# Altium schematic symbol library Soldering_Station_V2.SCHLIB: 34 symbols
Pins are listed as number, name and electrical type; pins without a type are passive.

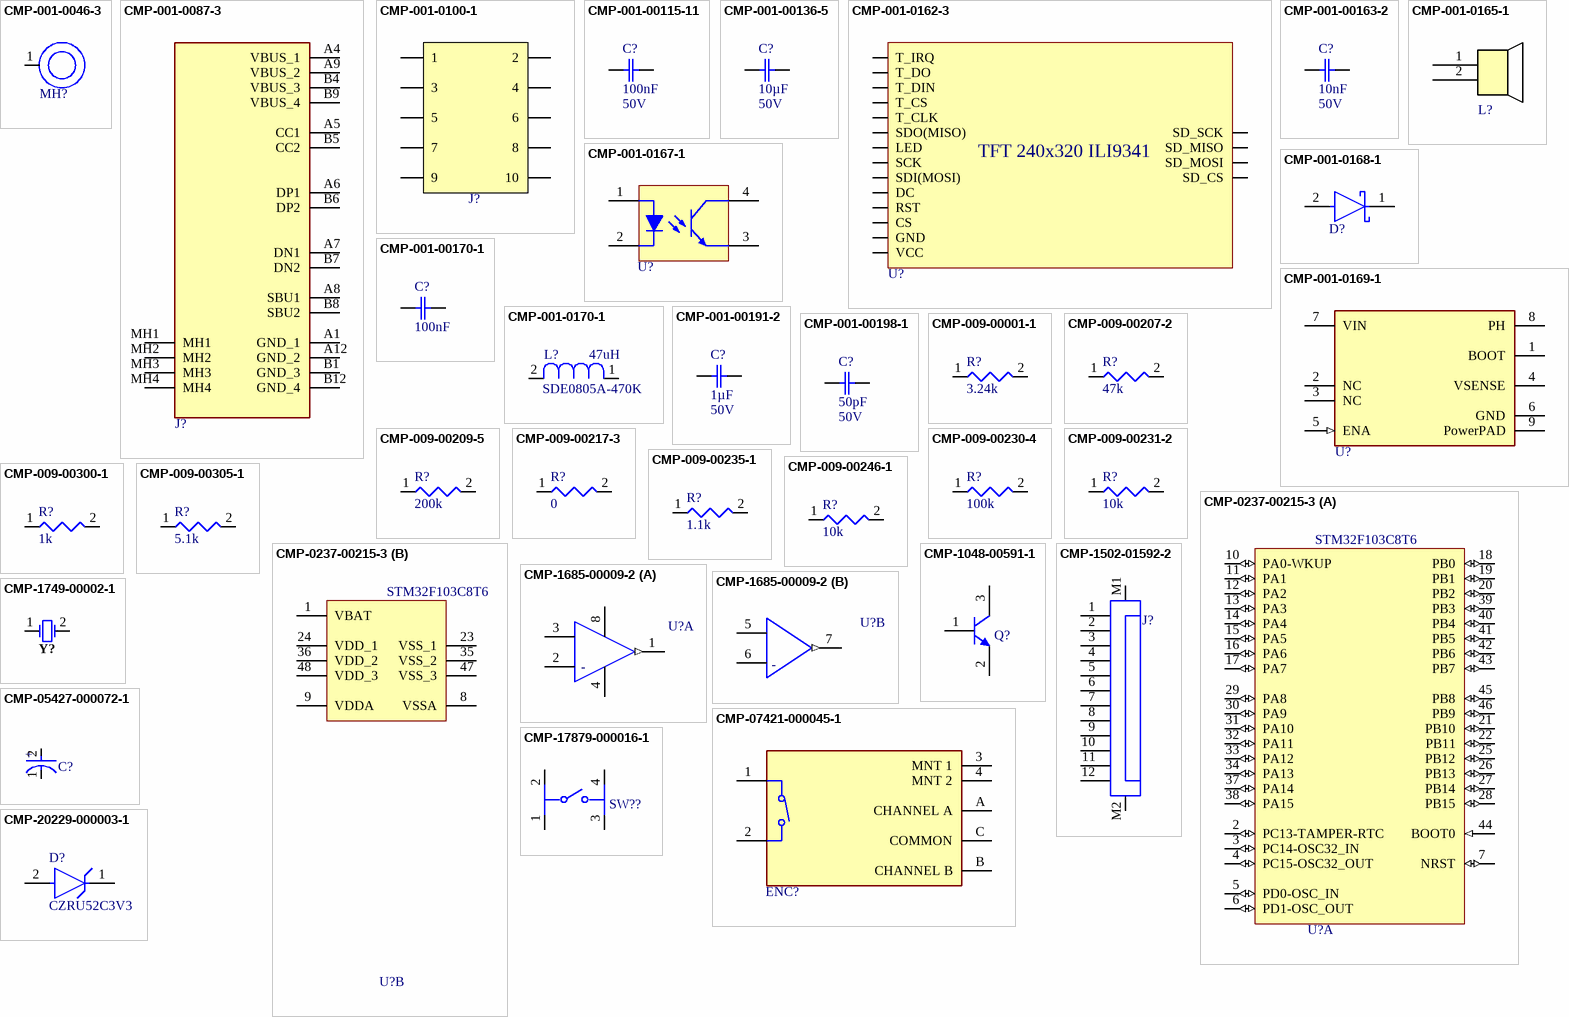
[diagram p0: symbols CMP-001-0046-3 to CMP-20229-000003-1]

## CMP-001-0046-3
designator MH?, comment 3mm_Mounting_Hole  (value not drawn)
3.2mm, sPad Mounting Hole; Size: 3mm
footprint Single_3mm_Mounting_Hole
pins: 1

## CMP-001-0087-3
designator J?, comment 216990-0001  (value not drawn)
Conn USB 2.0 Type C F 16 POS 0.5mm Solder RA SMD 16 Terminal 1 Port T/R; Voltage Rating: 30V; Current Rating: 1.25A; Gender: Receptacle; Number of Contacts: 16; USB Standard: USB 2.0; Max Operating Temperature: 85°C; Min Operating Temperature: -40°C; REACH SVHC: Yes; Pins: 16; Lifecycle Status: Production; Contact Material: Gold, Nickel; RoHS: Compliant
footprint 216990-0001-Footprint-1
pins: A1 GND_1, A4 VBUS_1, A5 CC1, A6 DP1, A7 DN1, A8 SBU1, A9 VBUS_2, A12 GND_2, B1 GND_3, B4 VBUS_3, B5 CC2, B6 DP2, B7 DN2, B8 SBU2, B9 VBUS_4, B12 GND_4, MH1, MH2, MH3, MH4

## CMP-001-0100-1
designator J?, comment 302-S101  (value not drawn)
Conn Shrouded Header (4 Sides) HDR 10 POS 2.54mm Solder ST Thru-Hole; Current Rating: 3A; Connector Type: Male Pin; Number of Contacts: 10; Contact Resistance: 20mΩ; Insulation Resistance: 1GΩ; Terminal Pitch: 2.54mm; RoHS: Compliant; REACH SVHC: Yes; Contact Gender: Male; Row Spacing: 2.54mm; Contact Material: Brass; Number of Rows: 2; Max Operating Temperature: 105°C; Color: Black; Pitch: 2.54mm; Contact Plating: Gold; Number of Positions: 10; Termination: Solder; Mounting Technology: Through Hole; Lifecycle Status: Production; Min Operating Temperature: -40°C; Pins: 10; Height: 9.15mm
footprint FP-302-S101-MFG
pins: 1, 2, 3, 4, 5, 6, 7, 8, 9, 10

## CMP-001-00115-11
designator C?, comment value 100nF  Voltage Rating: 50V  (hidden comment: CAP-MLCC_SMD-0603_MR-GCM_u_0.1uF_50V_10%_X8L)
Ceramic Capacitor, Multilayer, Ceramic, 50V, 10% +Tol, 10% -Tol, X8L, -40/+15% TC, 0.1uF, Surface Mount, 0603; Automotive: AEQ-200; Min Operating Temperature: -55°C; Case/Package: 0603; Mounting Technology: Surface Mount; RoHS Compliant: Yes; Capacitor Type: Ceramic; Pins: 2; Max Operating Temperature: 150°C
footprint Generic Ceramic 0603 CAP
pins: 1, 2

## CMP-001-00136-5
designator C?, comment value 10µF  Voltage Rating: 50V  (hidden comment: CAP-MLCC_SMD-1210_Mur_CGA_u_10uF_50V_10%_X7S)
Ceramic Capacitor, Multilayer, Ceramic, 50V, 10% +Tol, 10% -Tol, X7S, 22% TC, 10uF, Surface Mount, 1210; Dielectric: X8R; Mounting Technology: Surface Mount; Capacitor Type: Ceramic; Automotive: AEQ-Q200; Min Operating Temperature: -55°C; Tolerance: 10%; Pins: 2; Case/Package: 1210; Max Operating Temperature: 125°C; RoHS Compliant: Yes
footprint Generic Ceramic 1210 CAP
pins: 1, 2

## CMP-001-0162-3
designator U?, comment TFT 240x320 SPI  (value not drawn)
footprint TFT ILI9341 2.4inch
footprint TFT ILI9341 2.8inch
footprint TFT ILI9341 2.8inch 2
pins: 1 VCC, 2 GND, 3 CS, 4 RST, 5 DC, 6 SDI(MOSI), 7 SCK, 8 LED, 9 SDO(MISO), 10 T_CLK, 11 T_CS, 12 T_DIN, 13 T_DO, 14 T_IRQ, 15 SD_SCK, 16 SD_MISO, 17 SD_MOSI, 18 SD_CS
text: TFT 240x320 ILI9341

## CMP-001-00163-2
designator C?, comment value 10nF  Voltage Rating: 50V  (hidden comment: CAP-MLCC_SMD-0603_MR-GCM_n_10nF_50V_10%_COG)
Ceramic Capacitor, Multilayer, Ceramic, 50V, 5% +Tol, 5% -Tol, C0G, 30ppm/Cel TC, 0.01uF, Surface Mount, 0603; Dielectric: COG; Max Operating Temperature: 125°C; Min Operating Temperature: -55°C; Mounting Technology: Surface Mount; Automotive: AEQ-200; Case/Package: 0603; RoHS Compliant: Yes; Capacitor Type: Ceramic; Pins: 2
footprint Generic Ceramic 0603 CAP
pins: 1, 2

## CMP-001-0165-1
designator L?, comment TMB12A05  (value not drawn)
88dB Active (Built-in Driver Circuit) Electromagnetic Type 2.4kHz Plugin, D=12mm Buzzers ROHS
footprint TMB12A05-Footprint-1
pins: 1, 2

## CMP-001-0167-1
designator U?, comment H11A817ASD  (value not drawn)
OptoCouplers & OptoIsolators Optocoupler SM-DIP4 Phototransistor; Power Dissipation: 200mW; Number of Circuits: 1; Output Current per Channel: 50mA; Fall Time: 18µs; Forward Voltage: 1.5V; Dark Current: 100nA; Isolation Voltage: 5kV; Collector Emitter Breakdown Voltage: 70V; Reverse Breakdown Voltage: 6V; Current Transfer Ratio: 80%; Collector Emitter Saturation Voltage: 200mV; Min Operating Temperature: -55°C; Case/Package: SMD/SMT; RoHS: Compliant; Forward Current: 50mA; Lifecycle Status: Obsolete; Max Power Dissipation: 200mW; Continuous Collector Current: 50mA; Pins: 4; Lead Free: Lead Free; Number of Channels: 1; Rise Time: 18µs; Max Operating Temperature: 100°C; Collector Emitter Voltage (VCEO): 70V; Output Voltage: 70V; Max Collector Current: 50mA; Packaging: Tape and Reel; Number of Elements: 1
footprint FAIR-H11A817ASD-4_V (SMD, 4-Leads, Body 6.605x4.64mm, Pitch 2.54mm)
pins: 1 ANODE, 2 CATHODE, 3 EMITTER, 4 COLLECTOR

## CMP-001-0168-1
designator D?, comment DIO-SHOTTKY_SMD_OD-214AC_TWS-1A_100V  (value not drawn)
Rectifier Diode, Schottky, 1 Phase, 1 Element, 1A, 100V V(RRM), Silicon, DO-214AC; Manufacturer Lifecycle Status: ACTIVE; Manufacturer Part Number: SS110; Peak Reverse Current: 2mA; Peak Non-Repetitive Surge Current: 40A; Element Configuration: Single; Forward Voltage: 800mV; Rep Pk Reverse Voltage-Max: 150V; Number of Elements: 1; Reference Standard: AEC-Q101; Max Repetitive Reverse Voltage (Vrrm): 100V; Mounting Technology: Surface Mount; REACH SVHC: No; Case/Package: SMA; Reach SVHC Compliant: Yes; Max Operating Temperature: 150°C; Height: 2.3mm; Lifecycle Status: Production; Length: 4.6mm; Max Forward Surge Current (Ifsm): 40A; Min Operating Temperature: -55°C; Width: 2.83mm; RoHS Compliant: Yes; Forward Current: 1A; Max Output current: 1A; Reverse Standoff Voltage: 100V; Number of Terminals: 2; RoHS: Compliant; Pins: 2
footprint DIO-SHOTTKY_SMD_OD-214AC_TWS-1A_100V-Footprint-1
pins: 1 C, 2 A

## CMP-001-0169-1
designator U?, comment TPS5430QDDARQ1  (value not drawn)
Automotive 5.5V to 36V, 500kHz Fixed Frequency 3A Buck Converter 8-SO PowerPAD -40 to 125; Manufacturer Lifecycle Status: ACTIVE; Output Voltage: 1.221V; Output Type: Adjustable; Quiescent Current: 3mA; Number of Outputs: 1; Max Duty Cycle: 89%; Efficiency: 95%; Max Output Voltage: 31V; Min Output Voltage: 1.22V; Max Junction Temperature (Tj): 125°C; Synchronous Rectifier: No; Pins: 8; Length: 4.89mm; REACH SVHC: No; Height: 1.7mm; Mounting Technology: Surface Mount; Radiation Hardening: No; Thickness: 1.48mm; Width: 3.9mm; Output Current: 3A; Lead Free: Lead Free; Min Input Voltage: 5.5V; Switching Frequency: 500kHz; Nominal Supply Current: 3mA; Topology: Buck; Min Supply Voltage: 5.5V; Operating Supply Voltage: 36V; RoHS: Compliant; Max Supply Voltage: 36V; Max Output current: 3A; Weight: 70.590313mg; Min Operating Temperature: -40°C; Max Operating Temperature: 125°C; Lifecycle Status: Production
footprint FP-DDA0008J-IPC_B
pins: 1 BOOT, 2 NC, 3 NC, 4 VSENSE (power), 5 ENA (in), 6 GND (power), 7 VIN (power), 8 PH, 9 PowerPAD (power)

## CMP-001-00170-1
designator C?, comment value 100nF  (hidden comment: CAP-MLCC_SMD-0402_MR-GCM_n_100nF_50V_10%_X7R)
Ceramic Capacitor, Ceramic, 50V, 10% +Tol, 10% -Tol, X7R, 15% TC, 0.1uF, Surface Mount, 0402; Mounting Technology: Surface Mount; RoHS Compliant: Yes; Capacitor Type: Ceramic; Min Operating Temperature: -55°C; Case/Package: 0402; Max Operating Temperature: 125°C; Pins: 2
footprint Generic Ceramic 0402 CAP
pins: 1, 2

## CMP-001-0170-1
designator L?, comment Inductance: 47uH  (hidden comment: SDE0805A-470K)
Inductor Power Unshielded Wirewound 47uH 10% 1MHz Ferrite 1.7A 0.18Ohm DCR Automotive AEC-Q200 T/R; DC Resistance (DCR): 180mΩ; Shielding: No; Number of Circuits: 1; Self Resonant Frequency: 12.1MHz; Saturation Current: 1.4A; Value: 47µH; Model: SDE0805A-470K; Max Operating Temperature: 125°C; RMS Current (Irms): 1.7A; Termination: SMD/SMT; REACH SVHC: Yes; Contact Plating: Tin; Height - Seated (Max): 5.5118mm; Composition: Wirewound; RoHS: Compliant; Lifecycle Status: Production; Case/Package: 2828; Core Material: Ferrite; Min Operating Temperature: -40°C; Inductance Tolerance: 10%; Mounting Technology: Surface Mount; Height: 5mm; Ratings: AEC-Q200; Width: 7mm; Max Current Rating: 1.7A; Number of Terminals: 2; Tolerance: 10%; Test Frequency: 1MHz; Length: 7.7978mm; Current Rating: 1.7A; Schedule B: 8504500000, 8504500000; China RoHS: Compliant
footprint SDE0805A-470K-Footprint-1
pins: 1, 2

## CMP-001-00191-2
designator C?, comment value 1µF  Voltage Rating: 50V  (hidden comment: CAP-MLCC_SMD-0603_MR-GRT_u_1uF_50V_10%_X5R)
Multilayer Ceramic Capacitors MLCC - SMD/SMT 0603 50Vdc 1.0uF X5R 10%; Case/Package: 0603; Tolerance: 10%; Min Operating Temperature: -55°C; Capacitor Type: Ceramic; Pins: 2; RoHS Compliant: Yes; Mounting Technology: Surface Mount; Automotive: AEQ-200; Max Operating Temperature: 85°C; Dielectric: X5R
footprint Generic Ceramic 0603 CAP
pins: 1, 2

## CMP-001-00198-1
designator C?, comment value 50pF  Voltage Rating: 50V  (hidden comment: CAP-MLCC_SMD-0603_YGE-CC_p_50pF_50V_5%_C0G)
Surface Mount Ceramic Multilayer Capacitor 50pF 5% C0G 50V 0603 Paper T/R; Dielectric: COG; Case/Package: 0603; Min Operating Temperature: -55°C; RoHS Compliant: Yes; Automotive: NONE; Capacitor Type: Ceramic; Mounting Technology: Surface Mount; Max Operating Temperature: 125°C; Pins: 2
footprint Generic Ceramic 0603 CAP
pins: 1, 2

## CMP-009-00001-1
designator R?, comment value 3.24k  (hidden comment: RES-TK_SMD-0603_VIS-CRCW_K_3.24K_1/10W_1%)
Res Thick Film 0805 3.24K Ohm 1% 1/8W ±100ppm/°C Molded SMD SMD Paper T/R; Manufacturer Package Identifier: CRCW0805-e3; Max Power Dissipation: 125mW; Voltage Rating (DC): 150V; RoHS Compliant: Yes; Case Code (Imperial): 0805; Min Operating Temperature: -55°C; REACH SVHC: Yes; Pins: 2; Packaging: Cut Tape; China RoHS: Non-Compliant; Temperature Coefficient: 100ppm/°C; Weight: 5.499807mg; Radiation Hardening: No; Composition: Thick Film; Number of Terminals: 2; Military Standard: Not; Lead Free: Lead Free; Power Rating: 125mW; Mounting Technology: Surface Mount; Length: 2mm; Width: 1.25mm; Case/Package: 0805; Contact Plating: Tin; Termination: Solder; Height: 450µm; Schedule B: 8533210045, 8533210045; Working Voltage: 150V; Features: Automotive AEC-Q200; Number of Terminations: 2; Voltage Rating: 150V; Power Dissipation: 125mW; Lifecycle Status: Production; Power: 125mW; RoHS: Compliant; Depth: 1.25mm; Tolerance: 1%; Max Operating Temperature: 155°C
footprint Generic_0603_RES
pins: 1, 2

## CMP-009-00207-2
designator R?, comment value 47k  (hidden comment: RES-TK_SMD-0603_VIS-CRCW_K_47K_1/10W_1%)
Fixed Resistor, Metal Glaze/thick Film, 0.1W, 47000ohm, 75V, 1% +/-Tol, 100ppm/Cel, Surface Mount, 0603; Power: 100mW; Case/Package: 0603; Max Operating Temperature: 155°C; Voltage Rating: 75V; RoHS Compliant: Yes; Min Operating Temperature: -55°C; Tolerance: 1%; Mounting Technology: Surface Mount; Pins: 2
footprint Generic_0603_RES
pins: 1, 2

## CMP-009-00209-5
designator R?, comment value 200k  (hidden comment: RES-TK_SMD-0603_VIS-CRCW_K_200K_1/10W_1%)
Fixed Resistor, Metal Glaze/thick Film, 0.1W, 200000ohm, 75V, 1% +/-Tol, 100ppm/Cel, Surface Mount, 0603; Power: 100mW; RoHS Compliant: Yes; Voltage Rating: 75V; Tolerance: 1%; Case/Package: 0603; Min Operating Temperature: -55°C; Max Operating Temperature: 155°C; Mounting Technology: Surface Mount; Pins: 2
footprint Generic_0603_RES
pins: 1, 2

## CMP-009-00217-3
designator R?, comment value 0  (hidden comment: RES-TK_SMD-0603_VIS-CRCW_R_0R_1/10W_1%)
Resistor SMD 0 Ohm 0603 PU=5000 ST, CRCW06030000Z0EA, Vishay; Tolerance: 1%; Voltage Rating: 75V; Power: 100mW; Min Operating Temperature: -55°C; Mounting Technology: Surface Mount; Pins: 2; Max Operating Temperature: 155°C; Case/Package: 0603; RoHS Compliant: Yes
footprint Generic_0603_RES
pins: 1, 2

## CMP-009-00230-4
designator R?, comment value 100k  (hidden comment: RES-TK_SMD-0603_VIS-CRCW_K_100K_1/10W_1%)
Fixed Resistor, Metal Glaze/thick Film, 0.1W, 100000ohm, 75V, 1% +/-Tol, 100ppm/Cel, Surface Mount, 0603; Power: 100mW; Pins: 2; Max Operating Temperature: 155°C; Mounting Technology: Surface Mount; Case/Package: 0603; RoHS Compliant: Yes; Voltage Rating: 75V; Tolerance: 1%; Min Operating Temperature: -55°C
footprint Generic_0603_RES
pins: 1, 2

## CMP-009-00231-2
designator R?, comment value 10k  (hidden comment: RES-TK_SMD-0603_VIS-CRCW_K_10K_1/10W_1%)
Fixed Resistor, Metal Glaze/thick Film, 0.1W, 10000ohm, 75V, 1% +/-Tol, 100ppm/Cel, Surface Mount, 0603; Power: 100mW; Min Operating Temperature: -55°C; Case/Package: 0603; Max Operating Temperature: 155°C; RoHS Compliant: Yes; Voltage Rating: 75V; Tolerance: 1%; Pins: 2; Mounting Technology: Surface Mount
footprint Generic_0603_RES
pins: 1, 2

## CMP-009-00235-1
designator R?, comment value 1.1k  (hidden comment: RES-TK_SMD-0603_VIS-CRCW_K_1.1K_1/10W_1%)
Fixed Resistor, Metal Glaze/thick Film, 0.1W, 1100ohm, 75V, 1% +/-Tol, 100ppm/Cel, Surface Mount, 0603; Power: 100mW; Mounting Technology: Surface Mount; Max Operating Temperature: 155°C; RoHS Compliant: Yes; Min Operating Temperature: -55°C; Voltage Rating: 75V; Case/Package: 0603; Tolerance: 1%; Pins: 2
footprint Generic_0603_RES
pins: 1, 2

## CMP-009-00246-1
designator R?, comment value 10k  (hidden comment: RES-TK_SMD-0603_VIS-CRCW_K_10K_1/10W_1%)
Fixed Resistor, Metal Glaze/thick Film, 0.1W, 10000ohm, 75V, 1% +/-Tol, 100ppm/Cel, Surface Mount, 0603; Power: 100mW; Mounting Technology: Surface Mount; Pins: 2; Min Operating Temperature: -55°C; Tolerance: 1%; RoHS Compliant: Yes; Max Operating Temperature: 155°C; Case/Package: 0603; Voltage Rating: 75V
footprint Generic_0603_RES
pins: 1, 2

## CMP-009-00300-1
designator R?, comment value 1k  (hidden comment: RES-TK_SMD-0603_VIS-CRCW_K_1K_1/10W_1%)
Fixed Resistor, Metal Glaze/thick Film, 0.1W, 1000ohm, 75V, 1% +/-Tol, 100ppm/Cel, Surface Mount, 0603; Power: 100mW; Mounting Technology: Surface Mount; Max Operating Temperature: 155°C; Pins: 2; Min Operating Temperature: -55°C; Tolerance: 1%; RoHS Compliant: Yes; Case/Package: 0603; Voltage Rating: 75V
footprint Generic_0603_RES
pins: 1, 2

## CMP-009-00305-1
designator R?, comment value 5.1k  (hidden comment: RES-TK_SMD-0603_VIS-CRCW_K_5.1K_1/10W_1%)
Fixed Resistor, Metal Glaze/thick Film, 0.1W, 5100ohm, 75V, 1% +/-Tol, 100ppm/Cel, Surface Mount, 0603; Power: 100mW; Max Operating Temperature: 155°C; Voltage Rating: 75V; Tolerance: 1%; Min Operating Temperature: -55°C; Pins: 2; Mounting Technology: Surface Mount; RoHS Compliant: Yes; Case/Package: 0603
footprint Generic_0603_RES
pins: 1, 2

## CMP-0237-00215-3
designator U?, comment STM32F103C8T6
ARM Cortex-M3 32-bit MCU, 64 KB Flash, 20 KB Internal RAM, 37 I/Os, 48-pin LQFP, -40 to 85 degC, Tray; Supply Voltage(Vcc) min (V): 2; Internal RAM Size (kB): 20; FLASH Size (Prog) (kB): 64; A/D Converter: 2x12-bit (10 Channel); I/Os (High Current): 37; Operating Frequency(F) (Processor speed) (MHz): 72; Core: ARM Cortex-M3; ComponentLink3Description: Package Specification; Mounting Technology: Surface Mount; PartNumber: STM32F103C8T6; PackageReference: LQFP48; Packing: Tray; ComponentLink3URL: http://www.st.com/st-web-ui/static/active/en/resource/technical/document/datasheet/DM00058181.pdf; DatasheetVersion: Rev. 16; ComponentLink1URL: http://www.st.com/web/en/home.html; PackageVersion: Rev. 6, 06/2013; ComponentLink2URL: http://www.st.com/st-web-ui/static/active/en/resource/technical/document/datasheet/CD00161566.pdf; ComponentLink1Description: Manufacturer URL; ComponentLink2Description: Datasheet; PackageDescription: 48-Pin Low Profile Quad Flat Package, 7 x 7 mm Body, 0.5 mm Pitch
footprint STM-LQFP48_L (QFP, 48-Leads, Body 7x7mm, Pitch 0.5mm, IPC High Density)
footprint STM-LQFP48_N (QFP, 48-Leads, Body 7x7mm, Pitch 0.5mm, IPC Medium Density)
footprint STM-LQFP48_M (QFP, 48-Leads, Body 7x7mm, Pitch 0.5mm, IPC Low Density)
part A pins: 2 PC13-TAMPER-RTC (io) "PC13-TAMPER-RTC/PC13/TAMPER-RTC", 3 PC14-OSC32_IN (io) "PC14-OSC32_IN/PC14/OSC32_IN", 4 PC15-OSC32_OUT (io) "PC15-OSC32_OUT/PC15/OSC32_OUT", 5 PD0-OSC_IN (io) "PD0/OSC_IN", 6 PD1-OSC_OUT (io) "PD1/OSC_OUT", 7 NRST (io), 10 PA0-WKUP (io) "PA0-WKUP/PA0/WKUP/USART2_CTS/ADC12_IN0/TIM2_CH1_ETR", 11 PA1 (io) "PA1/USART2_RTS/ADC12_IN1/TIM2_CH2", 12 PA2 (io) "PA2/USART2_TX/ADC12_IN2/TIM2_CH3", 13 PA3 (io) "PA3/USART2_RX/ADC12_IN3/TIM2_CH4", 14 PA4 (io) "PA4/SPI1_NSS/USART2_CK/ADC12_IN4", 15 PA5 (io) "PA5/SPI1_SCK/ADC12_IN5", 16 PA6 (io) "PA6/SPI1_MISO/ADC12_IN6/TIM3_CH1/TIM1_BKIN", 17 PA7 (io) "PA7/SPI1_MOSI/ADC12_IN7/TIM3_CH2/TIM1_CH1N", 18 PB0 (io) "PB0/ADC12_IN8/TIM3_CH3/TIM1_CH2N", 19 PB1 (io) "PB1/ADC12_IN9/TIM3_CH4/TIM1_CH3N", 20 PB2 (io) "PB2/BOOT1", 21 PB10 (io) "PB10/I2C2_SCL/USART3_TX/TIM2_CH3", 22 PB11 (io) "PB11/I2C2_SDA/USART3_RX/TIM2_CH4", 25 PB12 (io) "PB12/SPI2_NSS/I2C2_SMBAl/USART3_CK/TIM1_BKIN", 26 PB13 (io) "PB13/SPI2_SCK/USART3_CTS/TIM1_CH1N", 27 PB14 (io) "PB14/SPI2_MISO/USART3_RTS/TIM1_CH2N", 28 PB15 (io) "PB15/SPI2_MOSI/TIM1_CH3N", 29 PA8 (io) "PA8/USART1_CK/TIM1_CH1/MCO", 30 PA9 (io) "PA9/USART1_TX/TIM1_CH2", 31 PA10 (io) "PA10/USART1_RX/TIM1_CH3", 32 PA11 (io) "PA11/USART1_CTS/CANRX/USBDM/TIM1_CH4", 33 PA12 (io) "PA12/USART1_RTS/CANTX/USBDP/TIM1_ETR", 34 PA13 (io) "PA13/JTMS/SWDIO", 37 PA14 (io) "PA14/JTCK/SWCLK", 38 PA15 (io) "PA15/JTDI/TIM2_CH1_ETR/SPI1_NSS", 39 PB3 (io) "PB3/JTDO/TIM2_CH2/TRACESWO/SPI1_SCK", 40 PB4 (io) "PB4/NJTRST/TIM3_CH1/SPI1_MISO", 41 PB5 (io) "PB5/I2C1_SMBAI/TIM3_CH2/SPI1_MOSI", 42 PB6 (io) "PB6/I2C1_SCL/TIM4_CH1/USART1_TX", 43 PB7 (io) "PB7/I2C1_SDA/TIM4_CH2/USART1_RX", 44 BOOT0 (in), 45 PB8 (io) "PB8/TIM4_CH3/I2C1_SCL/CANRX", 46 PB9 (io) "PB9/TIM4_CH4/I2C1_SDA/CANTX"
part B pins: 1 VBAT (power), 8 VSSA (power), 9 VDDA (power), 23 VSS_1 (power), 24 VDD_1 (power), 35 VSS_2 (power), 36 VDD_2 (power), 47 VSS_3 (power), 48 VDD_3 (power)

## CMP-1048-00591-1
designator Q?, comment SMMBT2222ALT1G  (value not drawn)
General Purpose Transistor, NPN Silicon, 3-Pin SOT-23, Pb-Free, Tape and Reel; Manufacturer: On Semiconductor; fT Min (MHz): 300; IC Continuous (A): 0.6; Mounting Technology: Surface Mount; ComponentLink1URL: http://www.onsemi.com/; Polarity: NPN; PackageDescription: 3-Pin Small Outline Transistor, Body 2.92 x 1.3 mm, Pitch 0.95 mm; RoHS: TRUE; DatasheetVersion: Rev. 10; Packing: Tape and Reel; PackageVersion: Rev. AP, 11/2009; ComponentLink3Description: Package Specification; PartNumber: SMMBT2222ALT1G; ComponentLink1Description: Manufacturer URL; ComponentLink3URL: http://www.onsemi.cn/pub_link/Collateral/318-08.PDF; PackageReference: SOT-23-3-318-08; ComponentLink2Description: Datasheet; ComponentLink2URL: http://www.onsemi.cn/pub_link/Collateral/MMBT2222LT1-D.PDF
footprint ONSC-SOT-23-3-318-08_V (SOT23, 3-Leads, Body 2.92x1.3mm, Pitch 0.95mm)
pins: 1 B, 2 E, 3 C

## CMP-1502-01592-2
designator J?, comment 687112183622  (value not drawn)
NexarPartId: 81848331; Gender: Receptacle; Contact Resistance: 30mΩ; Pitch: 500µm; Current Rating: 400mA; Insulation Resistance: 100MΩ; Operating Supply Voltage: 50V; Min Operating Temperature: -25°C; Packaging: Tape and Reel; Orientation: Horizontal; Number of Pins: 12; Length: 6.6mm; Max Operating Temperature: 85°C; Lead Pitch: 500µm; RoHS: Compliant
footprint 687112183622 (WR-FPC 0.50mm SMT Horiz. Top Cont. Low Profile)
pins: 1, 2, 3, 4, 5, 6, 7, 8, 9, 10, 11, 12, M1, M2

## CMP-1685-00009-2
designator U?, comment LM358DR  (value not drawn)
IC OPAMP GP 2 CIRCUIT 8SOIC; Output Current: 30mA; Min Dual Supply Voltage: 1.5V; Input Offset Voltage (Vos): 7mV; Power Supply Rejection Ratio (PSRR): 65dB; Unity Gain Bandwidth Product: 700kHz; Number of Channels: 2; Min Supply Voltage: 3V; Max Dual Supply Voltage: 16V; Dual Supply Voltage: 9V; Max Supply Voltage: 32V; Nominal Supply Current: 1.2mA; Slew Rate: 0.3V/µs; Input Bias Current: 250nA; Voltage Gain: 100dB; Operating Supply Current: 1mA; REACH SVHC: No SVHC; Package Quantity: 2500; Width: 3.91mm; Max Operating Temperature: 70°C; Min Operating Temperature: 0°C; Mount: Surface Mount; Length: 4.9mm; Radiation Hardening: No; Case/Package: SOIC; Lead Free: Lead Free; Number of Elements: 2; Packaging: Tape and Reel; Output Current per Channel: 30mA; Number of Circuits: 2; Bandwidth: 700kHz; Operating Supply Voltage: 16V; Gain Bandwidth Product: 700kHz; Number of Pins: 8; Number of Amplifiers: 2; Height: 1.58mm; Common Mode Rejection Ratio: 65dB; Contact Plating: Gold
footprint FP-D0008A-MFG
footprint FP-D0008A-IPC_A
footprint FP-D0008A-IPC_B
footprint FP-D0008A-IPC_C
part A pins: 1 1OUT (out), 2 IN1- (hiz), 3 IN1+ (hiz), 4 V- (power), 8 V+ (power)
part B pins: 5 IN2+ (hiz), 6 IN2- (hiz), 7 2OUT (out)
part A text: -
part B text: -

## CMP-1749-00002-1
designator Y?, comment FOXSLF/080-20  (value not drawn)
Resistance Weld Thru-Hole Crystal, 8 MHz, -20 to 70 degC, 2-Pin THD, RoHS, Bulk; Dropout Voltage: 2 V; Outputs: 1; Nominal Output Voltage: 5 V; Min Input Voltage: 7 V; Case\Package: TO-263-3; Max Input Voltage: 35 V; Max Ouput Current: 1 A; Length: 10.24 mm; Max Operating Temperature: 125 degC; Mount: Surface Mount; PackageDescription: 2-Pin Through Hole Device, Body 11.35 x 4.65 mm; Package Quantity: 50; Pins: 3; ComponentLink2URL: http://download.siliconexpert.com/pdfs/2015/4/5/6/5/7/200/fox_/manual/35607121449963728hc49slf.pdf; PackageReference: FOXSLF080-20; Min Operating Temperature: 0 degC; Height: 30.02 mm; Packaging: Rail/Tube; Radiation Hardening: No; Width: 9.35 mm; ComponentLink1URL: http://www.foxonline.com/; DatasheetVersion: Mar-15; ComponentLink1Description: Manufacturer URL; Output Voltage: 5 V; RoHSCompliant: true; REACH SVHC: No SVHC; Output Current: 1 A; ComponentLink2Description: Datasheet
footprint FOX-FOXSLF080-20 (THD, 2-Leads, Body 11.35x4.65mm)
pins: 1, 2

## CMP-05427-000072-1
designator C?, comment EEEFT1V470AR  (value not drawn)
CAP ALUM 47UF 20% 35V SMD; Leakage Current: 16.4uA; Lead Diameter: 0.65mm; Ripple Current: 240mA; Life (Hours): 2000Hour; Polarity: Polar; ESR (Equivalent Series Resistance): 360mR; Voltage: 35V; Tolerance: 20%; Construction: Cylindrical; Radiation Hardening: No; Package Quantity: 1; Case/Package: Radial; Lead Pitch: 1.5mm; Voltage Rating (DC): 35V; Capacitance: 47uF; Height: 5.8mm; Length: 5.8mm; Diameter: 5mm; Series: FT; Voltage Rating: 35V; Ripple Current (AC): 240mA; Min Operating Temperature: -55°C; Contact Plating: Tin; Mount: Surface Mount; RoHS Compliant: Yes; Packaging: Tape and Reel; Number of Pins: 2; Max Operating Temperature: 105°C; Termination: SMD/SMT; REACH SVHC: No SVHC; Height - Seated (Max): 0.24inch
footprint FP-FTC-MFG
pins: 1 C, 2 A
text: +

## CMP-07421-000045-1
designator ENC?, comment PEC11R-4020F-S0012  (value not drawn)
ROTARY ENCODER MECHANICAL 12PPR; Built in Switch: Yes; Pulses per Revolution: 12; Number of Channels: 2; Detent: No; Output Type: Quadrature; Min Operating Temperature: -30°C; Height: 13.4mm; Orientation: Vertical; Max Operating Temperature: 70°C; Mount: Through Hole; Termination: PC Pin; Encoder Type: Mechanical; Width: 12.5mm; RoHS Compliant: Yes; Package Quantity: 150; Packaging: Bulk; Length: 26.5mm; Series: PEC11R
footprint FP-PEC11R-4020F-S0012-MFG
pins: 1, 2, 3 MNT 1, 4 MNT 2, A CHANNEL A, B CHANNEL B, C COMMON

## CMP-17879-000016-1
designator SW??, comment TL1105AF160Q  (value not drawn)
SWITCH TACTILE SPST-NO 0.05A 12V; Mechanical Life: 100000Cycles; Contact Current Rating: 50mA; Contact Resistance: 100mR; Switch Function: Off-Mom; Actuator Type: Standard; Actuator Length: 1.4mm; Max Voltage Rating (DC): 50V; Throw Configuration: SPST; Actuator Material: Nylon; Illumination Type: Non-Illuminated; Switch Travel: 0.25mm; Operating Force: 160gf; Package Quantity: 750; Width: 6mm; Series: TL1105; Voltage Rating (DC): 12V; Length: 6mm; Contact Plating: Silver; Color: Black; Housing Material: Nylon; Min Operating Temperature: -20°C; Lead Free: Lead Free; Mount: Through Hole; Termination: PC Pin; RoHS Compliant: Yes; Orientation: Straight; Max Operating Temperature: 70°C; Reach SVHC Compliant: Yes; Packaging: Bulk; Electrical Life: 100000Cycles; Current Rating: 50mA; Contact Material: Bronze; Size: 6mm
footprint FP-TL1105AF160Q-MFG
pins: 1, 2, 3, 4

## CMP-20229-000003-1
designator D?, comment CZRU52C3V3
DIODE ZENER 3.3V 150MW 0603; Zener Current: 5mA; Tolerance: 5%; Output Current: 500mA; Impedance: 95R; Element Configuration: Single; Max Reverse Leakage Current: 25uA; Max Operating Temperature: 125°C; Max Power Dissipation: 150mW; Power Rating: 150mW; Lead Free: Lead Free; Mount: Surface Mount; Packaging: Tape and Reel; Voltage Tolerance: 5%; Power Dissipation: 150mW; Zener Voltage: 3.3V; Min Operating Temperature: -55°C; Case/Package: SMD/SMT; Voltage Rating (DC): 3.3V; Package Quantity: 1
footprint FP-0603-SOD-523F-MFG
pins: 1 C, 2 A